# Altium footprint library aiskylab-06Crystals.PcbLib: 41 footprints (part 2 of 3)
Each footprint in its own frame and in the unit in brackets; x right, y up, seen from the top. Pads: shape width x height; smd on the part's side, far side on the other; paste and mask are expansions set on the pad; w line width, h text height; cw(c..) or ccw(c..) is an arc to the next point about the centre after c.
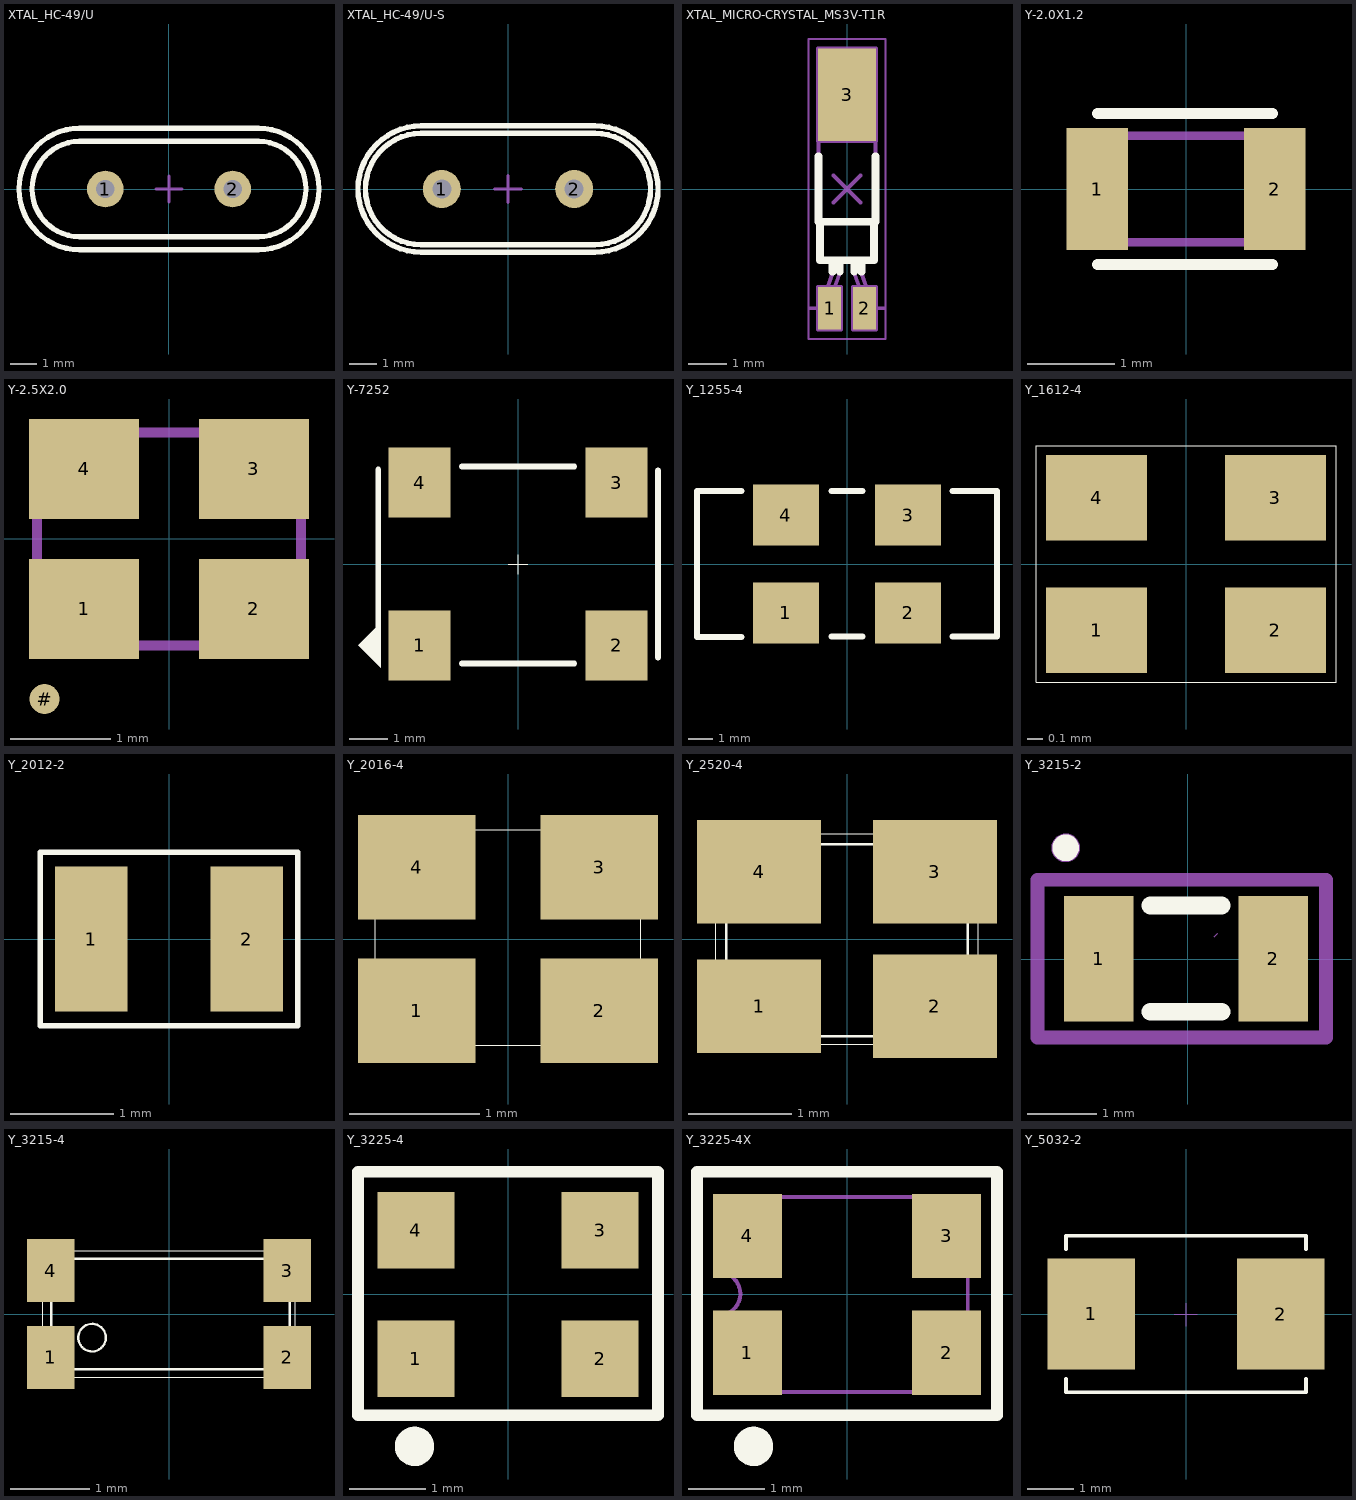
[diagram p1: the footprints below, top view; thin cyan lines are the x and y axes]

## XTAL_HC-49/U [mm] "HC-49/U Leaded Cristal, Body 11.05x4.8mm; Pitch 4.88mm"
height 13.6
pads (2):
  round 1.4 hole 0.7: 1(-2.44,0) 2(2.44,0)
Top Overlay:
  lines w0.2: -5.75,0 cw(c-3.42,0) -3.42,2.33 3.42,2.33 cw(c3.42,0) 5.75,0 cw(c3.42,0) 3.42,-2.33 -3.42,-2.33 cw(c-3.42,0) -5.75,0 ; -5.25,0 cw(c-3.42,0) -3.42,1.83 3.42,1.83 cw(c3.42,0) 5.25,0 cw(c3.42,0) 3.42,-1.83 -3.42,-1.83 cw(c-3.42,0) -5.25,0
Top Designator:
  text ".Designator" at -7.617,-0.508 h1.52
Top Assembly:
  lines w0.1: -5.75,0 ccw(c-3.42,0) -3.42,-2.33 3.42,-2.33 ccw(c3.42,0) 5.75,0 ccw(c3.42,0) 3.42,2.33 -3.42,2.33 ccw(c-3.42,0) -5.75,0 ; -5.25,0 ccw(c-3.42,0) -3.42,-1.83 3.42,-1.83 ccw(c3.42,0) 5.25,0 ccw(c3.42,0) 3.42,1.83 -3.42,1.83 ccw(c-3.42,0) -5.25,0
Top Component Center:
  lines w0.1: -2.94,0 -2.44,0 ; -2.44,-0.5 -2.44,0 ; -2.44,0.5 -2.44,0 ; -1.94,0 -2.44,0 ; -0.5,0 0,0 ; 0,-0.5 0,0 ; 0,0.5 0,0 ; 0.5,0 0,0 ; 1.94,0 2.44,0 ; 2.44,-0.5 2.44,0 ; 2.44,0.5 2.44,0 ; 2.94,0 2.44,0
3D body "XTAL_CITIZEN_HC-49-U-S.stp": height 3.5, standoff -3.6, extent -5.75,-2.33 5.75,2.33

## XTAL_HC-49/U-S [mm] "HC-49/U-S Leaded Cristal, Body 11.5x4.66mm; Pitch 4.88mm"
height 3.5
pads (2):
  round 1.4 hole 0.7: 1(-2.44,0) 2(2.44,0)
Top Overlay:
  lines w0.2: -3.2,-2.325 cw(c-3.2,0) -3.2,2.325 3.2,2.325 cw(c3.2,0) 3.2,-2.325 -3.2,-2.325 ; -3.2,-2.05 cw(c-3.2,0) -3.2,2.05 3.2,2.05 cw(c3.2,0) 3.2,-2.05 -3.2,-2.05
Top Designator:
  text ".Designator" at -7.618,-0.508 h1.52
Top Assembly:
  lines w0.1: -3.2,-2.325 cw(c-3.2,0) -3.2,2.325 3.2,2.325 cw(c3.2,0) 3.2,-2.325 -3.2,-2.325 ; -3.2,-2.05 cw(c-3.2,0) -3.2,2.05 3.2,2.05 cw(c3.2,0) 3.2,-2.05 -3.2,-2.05
Top Component Center:
  lines w0.1: -2.94,0 -2.44,0 ; -2.44,-0.5 -2.44,0 ; -2.44,0.5 -2.44,0 ; -1.94,0 -2.44,0 ; -0.5,0 0,0 ; 0,-0.5 0,0 ; 0,0.5 0,0 ; 0.5,0 0,0 ; 1.94,0 2.44,0 ; 2.44,-0.5 2.44,0 ; 2.44,0.5 2.44,0 ; 2.94,0 2.44,0
3D body "XTAL_HC-49-U.stp": height 13.6, standoff -3.6, extent -5.525,-2.4 5.525,2.4

## XTAL_MICRO-CRYSTAL_MS3V-T1R [mm] "2 Pins, 1.4 x 5.2 x 1.4mm , SMD Crystal, MS3V-T1R Serie"
height 1.48
pads (3):
  rect 0.6x1.1 smd: 1(-0.45,-3.1) 2(0.45,-3.1)
  rect 1.5x2.4 smd: 3(0,2.45)
Top Overlay:
  lines w0.2: -0.74,0.85 -0.74,-0.85 0.74,-0.85 0.74,0.85 ; -0.7,-0.85 -0.7,-1.85 0.7,-1.85 0.7,-0.85 ; -0.375,-2.15 -0.375,-1.85 ; -0.187,-2.15 -0.187,-1.85 ; 0.187,-2.15 0.187,-1.85 ; 0.375,-2.15 0.375,-1.85
Top Designator:
  text ".Designator" at -7.618,-0.508 h1.52
Top Dimensions:
  lines w0.1: -0.95,-3.1 -0.45,-3.1 ; -0.5,2.45 0,2.45 ; -0.45,-3.6 -0.45,-3.1 ; -0.45,-2.6 -0.45,-3.1 ; -0.354,-0.354 0,0 ; -0.354,0.354 0,0 ; 0,1.95 0,2.45 ; 0,2.95 0,2.45 ; 0.354,-0.354 0,0 ; 0.354,0.354 0,0 ; 0.45,-3.6 0.45,-3.1 ; 0.45,-2.6 0.45,-3.1 ; 0.5,2.45 0,2.45 ; 0.95,-3.1 0.45,-3.1 ; -0.75,-3.65 -0.75,-2.55 -0.15,-2.55 -0.15,-3.65 -0.75,-3.65 ; -0.75,1.25 0.75,1.25 0.75,3.65 -0.75,3.65 -0.75,1.25 ; 0.15,-3.65 0.15,-2.55 0.75,-2.55 0.75,-3.65 0.15,-3.65
Top 3D Body:
  lines w0.1: -0.7,-0.85 -0.7,-1.85 0.7,-1.85 0.7,-0.85 ; -0.375,-1.85 -0.375,-2.194 -0.594,-2.803 -0.594,-3.35 -0.406,-3.35 -0.406,-2.803 -0.187,-2.194 -0.187,-1.85 ; 0.187,-1.85 0.187,-2.194 0.406,-2.803 0.406,-3.35 0.594,-3.35 0.594,-2.803 0.375,-2.194 0.375,-1.85 ; -0.74,-0.85 0.74,-0.85 0.74,3.35 -0.74,3.35 -0.74,-0.85
Bottom 3D Body:
  lines w0.05: -1,-3.9 1,-3.9 1,3.9 -1,3.9 -1,-3.9
3D body "p110-060.stp": height 0.02, standoff 0, extent -0.75,-3.65 -0.15,-2.55
3D body "p110-060.stp": height 0.02, standoff 0, extent 0.15,-3.65 0.75,-2.55
3D body "p240-150.stp": height 0.02, standoff 0, extent -0.75,1.25 0.75,3.65
3D body "XTAL_MICRO-CRYSTAL_MS3V-T1R.stp": height 1.48, standoff 0, extent -0.74,-3.35 0.74,3.35

## Y-2.0X1.2 [mm]
height 8.78
pads (2):
  rect 0.7x1.4 smd mask+0.07: 1(-1.016,0) 2(1.016,0)
Top Overlay:
  lines w0.127: -1.009,-0.864 0.991,-0.864 ; -1.009,0.864 0.991,0.864
Top Designator:
  text ".Designator" at -7.618,-0.508 h1.52
Top Component Outline:
  lines w0.1: -0.991,-0.61 1.016,-0.61 1.016,0.61 -0.991,0.61 -0.991,-0.61
3D body "0_762-1_2.stp": height 0.01, standoff 0, extent 0.635,-0.6 1.397,0.6
3D body "p140-070.stp": height 0.02, standoff 0, extent 0.666,-0.7 1.366,0.7
3D body "0_762-1_2.stp": height 0.01, standoff 0, extent -1.397,-0.6 -0.635,0.6
3D body "p140-070.stp": height 0.02, standoff 0, extent -1.366,-0.7 -0.666,0.7
3D body "abs06.stp": height 0.6, standoff 0, extent -1,-0.6 1,0.6

## Y-2.5X2.0 [mm]
height 8.78
pads (5):
  rect 1.1x1 smd mask+0.07: 1(-0.85,-0.7) 2(0.85,-0.7) 3(0.85,0.7) 4(-0.85,0.7)
  round 0.3 smd mask+0.07: #(-1.245,-1.6)
Top Designator:
  text ".Designator" at -7.618,-0.783 h1.52
Bottom 3D Body:
  lines w0.1: -1.321,-1.067 -1.321,1.067 1.321,1.067 1.321,-1.067 -1.321,-1.067
3D body "p110-100.stp": height 0.02, standoff 0, extent 0.3,0.2 1.4,1.2
3D body "p110-100.stp": height 0.02, standoff 0, extent 0.3,-1.2 1.4,-0.2
3D body "p110-100.stp": height 0.02, standoff 0, extent -1.4,0.2 -0.3,1.2
3D body "p110-100.stp": height 0.02, standoff 0, extent -1.4,-1.2 -0.3,-0.2
3D body "fa-20h.stp": height 0.55, standoff 0, extent -1.255,-1 1.245,1

## Y-7252 [mm]
height 8.78
pads (4):
  rect 1.6x1.8 smd mask+0.051: 1(-2.54,-2.1) 2(2.54,-2.1) 3(2.54,2.1) 4(-2.54,2.1)
Top Overlay:
  region: -3.543,-2.68 -4.127,-2.095 -3.543,-1.511
  lines w0.025: -0.259,0 0.249,0 ; 0,-0.264 0,0.236
  lines w0.15: -3.607,-2.515 -3.607,2.438 ; -1.448,-2.565 1.448,-2.565 ; -1.448,2.515 1.448,2.515 ; 3.607,-2.413 3.607,2.413
Top Designator:
  text ".Designator" at -7.84,-0.508 h1.52
3D body "p180-160.stp": height 0.02, standoff 0, extent 1.74,-3 3.34,-1.2
3D body "p180-160.stp": height 0.02, standoff 0, extent -3.34,-3 -1.74,-1.2
3D body "p180-160.stp": height 0.02, standoff 0, extent 1.74,1.2 3.34,3
3D body "p180-160.stp": height 0.02, standoff 0, extent -3.34,1.2 -1.74,3
3D body "y_7050-4.stp": height 1.6, standoff 0, extent -3.505,-2.515 3.495,2.486

## Y_1255-4 [mm]
height 8.78
pads (4):
  rect 2.7x2.5 smd mask+0.051: 1(-2.5,-2) 2(2.5,-2) 3(2.5,2) 4(-2.5,2)
Top Overlay:
  lines w0.25: -4.318,-2.997 -6.147,-2.997 -6.147,2.997 -4.318,2.997 ; -0.635,-2.972 0.635,-2.972 ; -0.635,2.997 0.635,2.997 ; 4.318,-2.972 6.147,-2.972 6.147,2.997 4.318,2.997
Top Designator:
  text ".Designator" at -7.618,-0.508 h1.52
3D body "p270-250.stp": height 0.02, standoff 0, extent -3.85,0.75 -1.15,3.25
3D body "p270-250.stp": height 0.02, standoff 0, extent 1.15,0.75 3.85,3.25
3D body "p270-250.stp": height 0.02, standoff 0, extent -3.85,-3.25 -1.15,-0.75
3D body "p270-250.stp": height 0.02, standoff 0, extent 1.15,-3.25 3.85,-0.75
3D body "y_1255-4.stp": height 1.8, standoff -0.03, extent -5.882,-2.75 5.918,2.75

## Y_1612-4 [mm]
height 8.78
pads (4):
  rect 0.65x0.55 smd mask+0.051: 1(-0.575,-0.425) 2(0.575,-0.425) 3(0.575,0.425) 4(-0.575,0.425)
Top Overlay:
  circle w0.025: c-0.457,-0.305 r0.076
  lines w0.005: -0.965,-0.762 0.965,-0.762 0.965,0.762 -0.965,0.762 -0.965,-0.762
Top Designator:
  text ".Designator" at -7.618,-0.508 h1.52
3D body "y_1612-4.stp": height 0.3, standoff 0, extent -0.813,-0.6 0.788,0.6
3D body "p065-055.stp": height 0.02, standoff 0, extent -0.9,-0.7 -0.25,-0.15
3D body "p065-055.stp": height 0.02, standoff 0, extent -0.9,0.15 -0.25,0.7
3D body "p065-055.stp": height 0.02, standoff 0, extent 0.25,-0.7 0.9,-0.15
3D body "p065-055.stp": height 0.02, standoff 0, extent 0.25,0.15 0.9,0.7

## Y_2012-2 [mm]
height 8.78
pads (2):
  rect 0.7x1.4 smd: 1(-0.75,0) 2(0.75,0)
Top Overlay:
  lines w0.051: -1.245,-0.838 1.245,-0.838 1.245,0.838 -1.245,0.838 -1.245,-0.838
Top Designator:
  text ".Designator" at -7.618,-0.508 h1.52
3D body "y_2012-2.stp": height 0.6, standoff 0, extent -1.009,-0.6 0.991,0.6
3D body "p140-070.stp": height 0.02, standoff 0, extent -1.1,-0.7 -0.4,0.7
3D body "p140-070.stp": height 0.02, standoff 0, extent 0.4,-0.7 1.1,0.7

## Y_2016-4 [mm]
height 8.78
pads (4):
  rect 0.9x0.8 smd mask+0.051: 1(-0.7,-0.55) 2(0.7,-0.55) 3(0.7,0.55) 4(-0.7,0.55)
Top Overlay:
  circle w0.025: c-0.635,-0.432 r0.178
  lines w0.005: -1.016,-0.813 -1.016,0.838 1.016,0.838 1.016,-0.813 -1.016,-0.813
Top Designator:
  text ".Designator" at -7.618,-0.508 h1.52
3D body "y_2016-4.stp": height 0.45, standoff 0, extent -1,-0.787 1,0.813
3D body "p090-080.stp": height 0.02, standoff 0, extent -1.15,-0.95 -0.25,-0.15
3D body "p090-080.stp": height 0.02, standoff 0, extent -1.15,0.15 -0.25,0.95
3D body "p090-080.stp": height 0.02, standoff 0, extent 0.25,-0.95 1.15,-0.15
3D body "p090-080.stp": height 0.02, standoff 0, extent 0.25,0.15 1.15,0.95

## Y_2520-4 [mm]
height 8.78
pads (4):
  rect 1.2x0.9 smd mask+0.051: 1(-0.85,-0.65)
  rect 1.2x1 smd mask+0.051: 2(0.85,-0.65) 3(0.85,0.65) 4(-0.85,0.65)
Top Overlay:
  circle w0.025: c-0.737,-0.559 r0.152
  lines w0.005: -1.27,-1.016 1.27,-1.016 1.27,1.016 -1.27,1.016 -1.27,-1.016
  lines w0.025: -1.168,-0.889 cw(c-1.168,-0.94) -1.118,-0.94 1.118,-0.94 cw(c1.168,-0.94) 1.168,-0.889 1.168,0.864 cw(c1.168,0.914) 1.118,0.914 -1.118,0.914 cw(c-1.168,0.914) -1.168,0.864 -1.168,-0.889
Top Designator:
  text ".Designator" at -7.618,-0.508 h1.52
3D body "y_2520-4.stp": height 0.45, standoff -0.01, extent -1.255,-1 1.245,1
3D body "p120-100.stp": height 0.02, standoff 0, extent -1.45,-1.15 -0.25,-0.15
3D body "p120-100.stp": height 0.02, standoff 0, extent -1.45,0.15 -0.25,1.15
3D body "p120-100.stp": height 0.02, standoff 0, extent 0.25,-1.15 1.45,-0.15
3D body "p120-100.stp": height 0.02, standoff 0, extent 0.25,0.15 1.45,1.15

## Y_3215-2 [mm]
height 8.78
pads (2):
  rect 1x1.8 smd: 1(-1.278,0.011) 2(1.222,0.011)
Top Overlay:
  circle w0.2: c-1.753,1.6 r0.092
  lines w0.254: -0.536,-0.751 0.48,-0.751 ; -0.536,0.773 0.48,0.773
Top Designator:
  text ".Designator" at -7.618,-0.508 h1.52
Top Assembly:
  circle w0.2: c-1.753,1.6 r0.105
  lines w0.2: -2.159,-1.118 1.981,-1.118 1.981,1.143 -2.159,1.143 -2.159,-1.118
Bottom 3D Body:
  lines w0.003: 0.374,0.328 0.424,0.379
3D body "y_3215-2.stp": height 0.8, standoff 0, extent -1.626,-0.762 1.574,0.738
3D body "p155-100.stp": height 0.02, standoff 0, extent -1.75,-0.775 -0.75,0.775
3D body "p155-100.stp": height 0.02, standoff 0, extent 0.75,-0.775 1.75,0.775

## Y_3215-4 [mm]
height 8.78
pads (4):
  rect 0.6x0.8 smd mask+0.051: 1(-1.5,-0.55) 2(1.5,-0.55) 3(1.5,0.55) 4(-1.5,0.55)
Top Overlay:
  circle w0.03: c-0.974,-0.3 r0.174
  lines w0.01: -1.6,-0.8 -1.6,0.8 1.6,0.8 1.6,-0.8 -1.6,-0.8
  lines w0.03: -1.49,-0.7 1.53,-0.7 1.53,0.7 -1.49,0.7 -1.49,-0.7
Top Designator:
  text ".Designator" at -7.618,-0.508 h1.52
3D body "y_3215-4.stp": height 0.91, standoff 0, extent -1.6,-0.736 1.6,0.763
3D body "p080-060.stp": height 0.02, standoff 0, extent -1.8,-0.95 -1.2,-0.15
3D body "p080-060.stp": height 0.02, standoff 0, extent -1.8,0.15 -1.2,0.95
3D body "p080-060.stp": height 0.02, standoff 0, extent 1.2,-0.95 1.8,-0.15
3D body "p080-060.stp": height 0.02, standoff 0, extent 1.2,0.15 1.8,0.95

## Y_3225-4 [mm]
height 8.78
pads (4):
  rect 1x1 smd mask+0.051: 1(-1.2,-0.838) 2(1.2,-0.838) 3(1.2,0.838) 4(-1.2,0.838)
Top Overlay:
  circle w0.254: c-1.219,-1.981 r0.13
  lines w0.15: -1.956,-1.575 -1.956,1.6 1.956,1.6 1.956,-1.575 -1.956,-1.575
Top Designator:
  text ".Designator" at -7.618,-0.789 h1.52
3D body "y_3225-4.stp": height 0.86, standoff -0.02, extent -1.6,-1.245 1.6,1.255
3D body "p100-100.stp": height 0.02, standoff 0, extent -1.7,-1.338 -0.7,-0.338
3D body "p100-100.stp": height 0.02, standoff 0, extent -1.7,0.338 -0.7,1.338
3D body "p100-100.stp": height 0.02, standoff 0, extent 0.7,-1.338 1.7,-0.338
3D body "p100-100.stp": height 0.02, standoff 0, extent 0.7,0.338 1.7,1.338

## Y_3225-4X [mm]
height 8.78
pads (4):
  rect 0.9x1.1 smd mask+0.051: 1(-1.3,-0.762) 2(1.3,-0.762) 3(1.3,0.762) 4(-1.3,0.762)
Top Overlay:
  circle w0.254: c-1.219,-1.981 r0.13
  lines w0.15: -1.956,-1.575 1.956,-1.575 1.956,1.6 -1.956,1.6 -1.956,-1.575
Top Designator:
  text ".Designator" at -7.618,-0.789 h1.52
Top Assembly:
  lines w0.025: -1.575,-1.143 -1.702,-1.143 -1.702,-0.381 -1.575,-0.381 ; -1.575,0.381 -1.702,0.381 -1.702,1.143 -1.575,1.143 ; 1.575,-1.143 1.702,-1.143 1.702,-0.381 1.575,-0.381 ; 1.575,0.381 1.702,0.381 1.702,1.143 1.575,1.143
  lines w0.051: -1.575,0.268 -1.575,1.27 1.575,1.27 1.575,-1.27 -1.575,-1.27 -1.575,-0.254 ccw(c-1.67,0.009) -1.567,0.268
3D body "y_3225-4.stp": height 0.86, standoff -0.02, extent -1.6,-1.245 1.6,1.255
3D body "p110-090.stp": height 0.02, standoff 0, extent -1.75,-1.312 -0.85,-0.212
3D body "p110-090.stp": height 0.02, standoff 0, extent -1.75,0.212 -0.85,1.312
3D body "p110-090.stp": height 0.02, standoff 0, extent 0.85,-1.312 1.75,-0.212
3D body "p110-090.stp": height 0.02, standoff 0, extent 0.85,0.212 1.75,1.312

## Y_5032-2 [mm]
height 8.78
pads (2):
  rect 1.9x2.4 smd mask+0.051: 1(-2.05,0) 2(2.05,0)
Top Overlay:
  lines w0.076: -2.6,-1.4 -2.6,-1.7 2.6,-1.7 2.6,-1.4 ; -2.6,1.4 -2.6,1.7 2.6,1.7 2.6,1.4
Top Designator:
  text ".Designator" at -7.618,-0.508 h1.52
Top Component Center:
  lines w0.025: -0.259,0 0.249,0 ; 0,-0.264 0,0.236
3D body "y_5032.stp": height 1.1, standoff 0, extent -2.5,-1.6 2.5,1.6
3D body "p240-190.stp": height 0.02, standoff 0, extent -3,-1.2 -1.1,1.2
3D body "p240-190.stp": height 0.02, standoff 0, extent 1.1,-1.2 3,1.2